# EAGLE library part ATSAMD20G- (library Hermes_lib)
Low-Power, 32-bit Cortex-M0+ MCUs with 12-bit ADC, 10-bit DAC, 256-Channel PTC, RTC, and SERCOM Datasheet <http://ww1.microchip.com/downloads/en/DeviceDoc/60001504B.pdf>
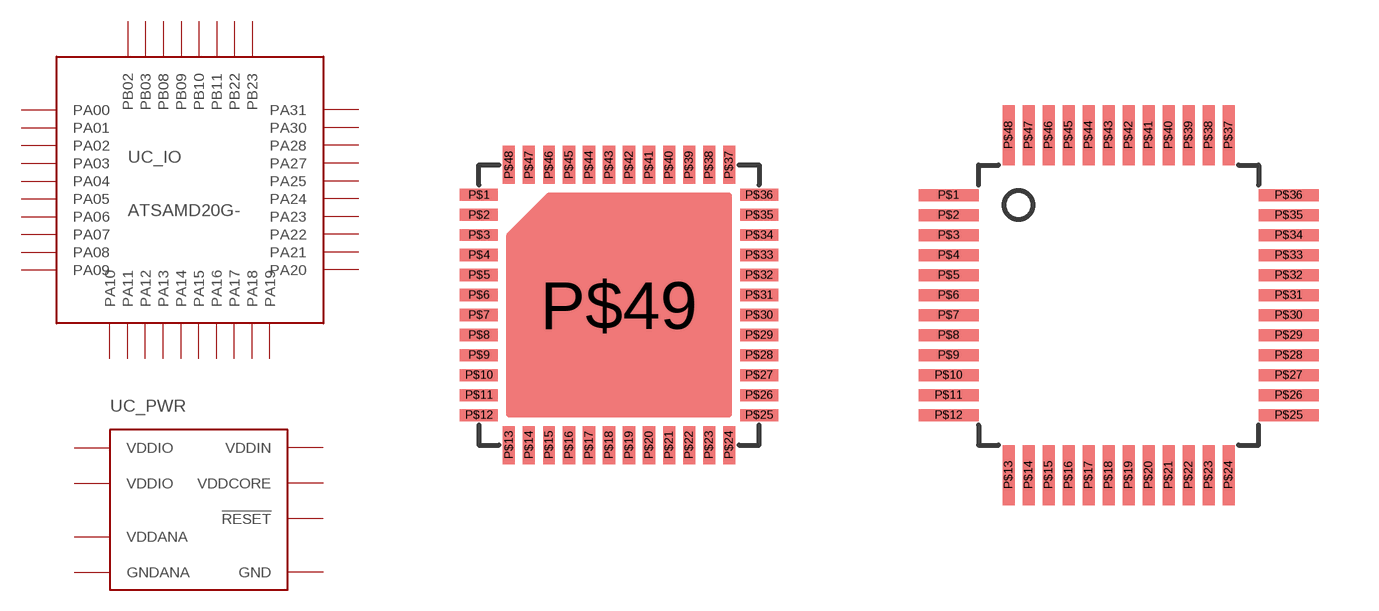
[diagram p0: symbol with the pads of QFN-48; footprints QFN-48, TQFP-48]

Designator prefix UC; gates _IO=SAMD20G_IO _PWR=POWER48

## ATSAMD20G-QFN48  [QFN-48]
P$1  _IO:PA00
P$2  _IO:PA01
P$3  _IO:PA02
P$4  _IO:PA03
P$5  _PWR:GNDANA
P$6  _PWR:VDDANA
P$7  _IO:PB08
P$8  _IO:PB09
P$9  _IO:PA04
P$10  _IO:PA05
P$11  _IO:PA06
P$12  _IO:PA07
P$13  _IO:PA08
P$14  _IO:PA09
P$15  _IO:PA10
P$16  _IO:PA11
P$17  _PWR:VDDIO
P$18  _PWR:GND
P$19  _IO:PB10
P$20  _IO:PB11
P$21  _IO:PA12
P$22  _IO:PA13
P$23  _IO:PA14
P$24  _IO:PA15
P$25  _IO:PA16
P$26  _IO:PA17
P$27  _IO:PA18
P$28  _IO:PA19
P$29  _IO:PA20
P$30  _IO:PA21
P$31  _IO:PA22
P$32  _IO:PA23
P$33  _IO:PA24
P$34  _IO:PA25
P$35  _PWR:GND
P$36  _PWR:VDDIO
P$37  _IO:PB22
P$38  _IO:PB23
P$39  _IO:PA27
P$40  _PWR:!RESET
P$41  _IO:PA28
P$42  _PWR:GND
P$43  _PWR:VDDCORE
P$44  _PWR:VDDIN
P$45  _IO:PA30
P$46  _IO:PA31
P$47  _IO:PB02
P$48  _IO:PB03
P$49  _PWR:GND

## ATSAMD20G-TQFP48  [TQFP-48]
P$1  _IO:PA00
P$2  _IO:PA01
P$3  _IO:PA02
P$4  _IO:PA03
P$5  _PWR:GNDANA
P$6  _PWR:VDDANA
P$7  _IO:PB08
P$8  _IO:PB09
P$9  _IO:PA04
P$10  _IO:PA05
P$11  _IO:PA06
P$12  _IO:PA07
P$13  _IO:PA08
P$14  _IO:PA09
P$15  _IO:PA10
P$16  _IO:PA11
P$17  _PWR:VDDIO
P$18  _PWR:GND
P$19  _IO:PB10
P$20  _IO:PB11
P$21  _IO:PA12
P$22  _IO:PA13
P$23  _IO:PA14
P$24  _IO:PA15
P$25  _IO:PA16
P$26  _IO:PA17
P$27  _IO:PA18
P$28  _IO:PA19
P$29  _IO:PA20
P$30  _IO:PA21
P$31  _IO:PA22
P$32  _IO:PA23
P$33  _IO:PA24
P$34  _IO:PA25
P$35  _PWR:GND
P$36  _PWR:VDDIO
P$37  _IO:PB22
P$38  _IO:PB23
P$39  _IO:PA27
P$40  _PWR:!RESET
P$41  _IO:PA28
P$42  _PWR:GND
P$43  _PWR:VDDCORE
P$44  _PWR:VDDIN
P$45  _IO:PA30
P$46  _IO:PA31
P$47  _IO:PB02
P$48  _IO:PB03

## Footprint QFN-48 (pad centres in mm)
smd 0.95 x 0.3: P$1 -3.5,2.75; P$2 -3.5,2.25; P$3 -3.5,1.75; P$4 -3.5,1.25; P$5 -3.5,0.75; P$6 -3.5,0.25; P$7 -3.5,-0.25; P$8 -3.5,-0.75; P$9 -3.5,-1.25; P$10 -3.5,-1.75; P$11 -3.5,-2.25; P$12 -3.5,-2.75; P$25 3.5,-2.75; P$26 3.5,-2.25; P$27 3.5,-1.75; P$28 3.5,-1.25; P$29 3.5,-0.75; P$30 3.5,-0.25; P$31 3.5,0.25; P$32 3.5,0.75; P$33 3.5,1.25; P$34 3.5,1.75; P$35 3.5,2.25; P$36 3.5,2.75
smd 0.3 x 0.95: P$13 -2.75,-3.5; P$14 -2.25,-3.5; P$15 -1.75,-3.5; P$16 -1.25,-3.5; P$17 -0.75,-3.5; P$18 -0.25,-3.5; P$19 0.25,-3.5; P$20 0.75,-3.5; P$21 1.25,-3.5; P$22 1.75,-3.5; P$23 2.25,-3.5; P$24 2.75,-3.5; P$37 2.75,3.5; P$38 2.25,3.5; P$39 1.75,3.5; P$40 1.25,3.5; P$41 0.75,3.5; P$42 0.25,3.5; P$43 -0.25,3.5; P$44 -0.75,3.5; P$45 -1.25,3.5; P$46 -1.75,3.5; P$47 -2.25,3.5; P$48 -2.75,3.5
smd 5.08 x 2.54: P$49 0,0

## Footprint TQFP-48 (pad centres in mm)
smd 1.5 x 0.3: P$1 -4.25,2.75; P$2 -4.25,2.25; P$3 -4.25,1.75; P$4 -4.25,1.25; P$5 -4.25,0.75; P$6 -4.25,0.25; P$7 -4.25,-0.25; P$8 -4.25,-0.75; P$9 -4.25,-1.25; P$10 -4.25,-1.75; P$11 -4.25,-2.25; P$12 -4.25,-2.75; P$25 4.25,-2.75; P$26 4.25,-2.25; P$27 4.25,-1.75; P$28 4.25,-1.25; P$29 4.25,-0.75; P$30 4.25,-0.25; P$31 4.25,0.25; P$32 4.25,0.75; P$33 4.25,1.25; P$34 4.25,1.75; P$35 4.25,2.25; P$36 4.25,2.75
smd 0.3 x 1.5: P$13 -2.75,-4.25; P$14 -2.25,-4.25; P$15 -1.75,-4.25; P$16 -1.25,-4.25; P$17 -0.75,-4.25; P$18 -0.25,-4.25; P$19 0.25,-4.25; P$20 0.75,-4.25; P$21 1.25,-4.25; P$22 1.75,-4.25; P$23 2.25,-4.25; P$24 2.75,-4.25; P$37 2.75,4.25; P$38 2.25,4.25; P$39 1.75,4.25; P$40 1.25,4.25; P$41 0.75,4.25; P$42 0.25,4.25; P$43 -0.25,4.25; P$44 -0.75,4.25; P$45 -1.25,4.25; P$46 -1.75,4.25; P$47 -2.25,4.25; P$48 -2.75,4.25